# EAGLE library part NUCLEO-F303K8 (library user_ic)
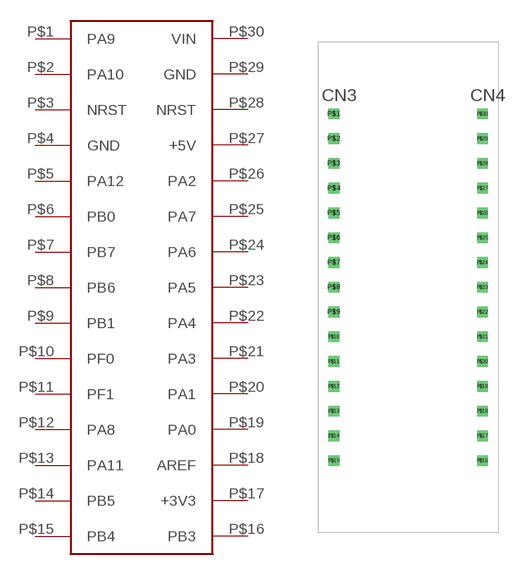
[diagram p14: symbol with the pads of NUCLEO-NANO; footprint NUCLEO-NANO]

Designator prefix -

## NUCLEO-F303K8  [NUCLEO-NANO]
P$1  PA9
P$2  PA10
P$3  NRST
P$4  GND
P$5  PA12
P$6  PB0
P$7  PB7
P$8  PB6
P$9  PB1
P$10  PF0
P$11  PF1
P$12  PA8
P$13  PA11
P$14  PB5
P$15  PB4
P$16  PB3
P$17  +3V3
P$18  AREF
P$19  PA0
P$20  PA1
P$21  PA3
P$22  PA4
P$23  PA5
P$24  PA6
P$25  PA7
P$26  PA2
P$27  +5V
P$28  NRST
P$29  GND
P$30  VIN

## Footprint NUCLEO-NANO (pad centres in mm)
drill 0.6 square: P$1 -7.62,17.78; P$2 -7.62,15.24; P$3 -7.62,12.7; P$4 -7.62,10.16; P$5 -7.62,7.62; P$6 -7.62,5.08; P$7 -7.62,2.54; P$8 -7.62,0; P$9 -7.62,-2.54; P$10 -7.62,-5.08; P$11 -7.62,-7.62; P$12 -7.62,-10.16; P$13 -7.62,-12.7; P$14 -7.62,-15.24; P$15 -7.62,-17.78; P$16 7.62,-17.78; P$17 7.62,-15.24; P$18 7.62,-12.7; P$19 7.62,-10.16; P$20 7.62,-7.62; P$21 7.62,-5.08; P$22 7.62,-2.54; P$23 7.62,0; P$24 7.62,2.54; P$25 7.62,5.08; P$26 7.62,7.62; P$27 7.62,10.16; P$28 7.62,12.7; P$29 7.62,15.24; P$30 7.62,17.78